# Altium footprint library 0603 Package.PcbLib: 2 footprints
Each footprint in its own frame and in the unit in brackets; x right, y up, seen from the top. Pads: shape width x height; smd on the part's side, far side on the other; paste and mask are expansions set on the pad; w line width, h text height; cw(c..) or ccw(c..) is an arc to the next point about the centre after c.
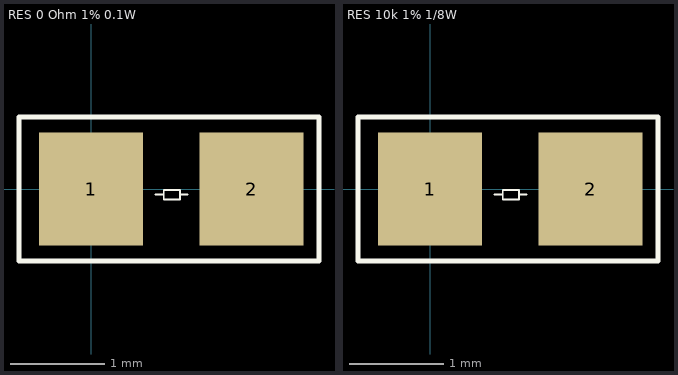
[diagram p0: the footprints below, top view; thin cyan lines are the x and y axes]

## RES 0 Ohm 1% 0.1W [mm] "0 Ohms Jumper 0.1W, 1/10W Chip Resistor 0603 (1608 Metric) Moisture Resistant Thick Film"
pads (2):
  rect 1.1x1.2 smd: 1(0,0) 2(1.7,0)
Top Overlay:
  lines w0.02: 0.68,-0.06 0.77,-0.06 ; 0.94,-0.06 1.02,-0.06 ; 0.77,-0.11 0.94,-0.11 0.94,-0.01 0.77,-0.01 0.77,-0.11
  lines w0.05: -0.762,-0.762 2.413,-0.762 2.413,0.762 -0.762,0.762 -0.762,-0.762
3D body "Resistor 0603.step": height 0.51, standoff 0.01, extent 0.02,-0.46 1.62,0.44

## RES 10k 1% 1/8W [mm] "10 kOhms ±1% 0.125W, 1/8W Chip Resistor 0603 (1608 Metric) Anti-Sulfur, Moisture Resistant Thin Film"
pads (2):
  rect 1.1x1.2 smd: 1(0,0) 2(1.7,0)
Top Overlay:
  lines w0.02: 0.68,-0.06 0.77,-0.06 ; 0.94,-0.06 1.02,-0.06 ; 0.77,-0.11 0.94,-0.11 0.94,-0.01 0.77,-0.01 0.77,-0.11
  lines w0.05: -0.762,-0.762 2.413,-0.762 2.413,0.762 -0.762,0.762 -0.762,-0.762
3D body "Resistor 0603.step": height 0.51, standoff 0.01, extent 0.02,-0.46 1.62,0.44